# EAGLE library part ADA4899-1YRDZ (library cyclops)
Unity-Gain Stable, Ultralow Distortion, 1 nV/ãHz Voltage Noise, High Speed Op Amp
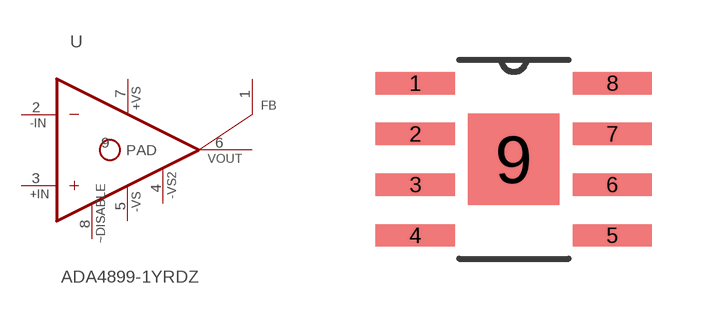
[diagram p12: symbol with the pads of SOIC127P600X175-9N; footprint SOIC127P600X175-9N]

Designator prefix U

## ADA4899-1YRDZ (MPN: ADA4899-1YRDZ; OC_FARNELL: 1274191; OC_NEWARK: 19M0651; PACKAGE: SOIC-8; SUPPLIER: Analog Devices)  [SOIC127P600X175-9N]
1  FEEDBACK  pas
2  -IN  in
3  +IN  in
4  -VS_2  pwr
5  -VS  pwr
6  VOUT  out
7  +VS  pwr
8  ~DISABLE  in
9  PAD  pas

## Footprint SOIC127P600X175-9N (pad centres in mm)
smd 1.981 x 0.559: 1 -2.464,1.905; 2 -2.464,0.635; 3 -2.464,-0.635; 4 -2.464,-1.905; 5 2.464,-1.905; 6 2.464,-0.635; 7 2.464,0.635; 8 2.464,1.905
smd 2.286 x 2.286: 9 0,0